# EAGLE library part RECEPTABLE_1X8_VERT_SMT (library seb)
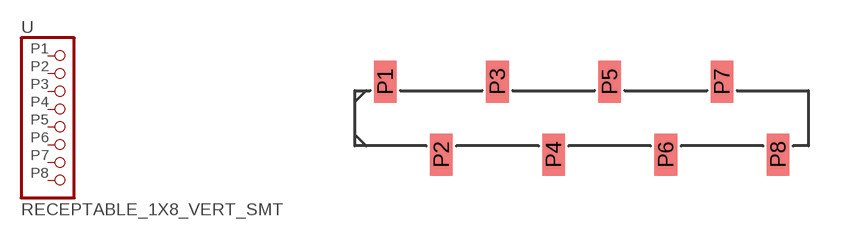
[diagram p13: symbol with the pads of RECEPTABLE_1X8_VERT_SMT; footprint RECEPTABLE_1X8_VERT_SMT]

Designator prefix -

## RECEPTABLE_1X8_VERT_SMT  [RECEPTABLE_1X8_VERT_SMT]
P1  1  pas
P2  2  pas
P3  3  pas
P4  4  pas
P5  5  pas
P6  6  pas
P7  7  pas
P8  8  pas

## Footprint RECEPTABLE_1X8_VERT_SMT (pad centres in mm)
smd 1.02 x 1.9: P1 -7.62,1.65; P2 -5.08,-1.65; P3 -2.54,1.65; P4 0,-1.65; P5 2.54,1.65; P6 5.08,-1.65; P7 7.62,1.65; P8 10.16,-1.65